# Altium integrated library ST RF and IF Frequency Synthesiser.IntLib: 6 symbols
Pins are listed as number, name and electrical type; pins without a type are passive.

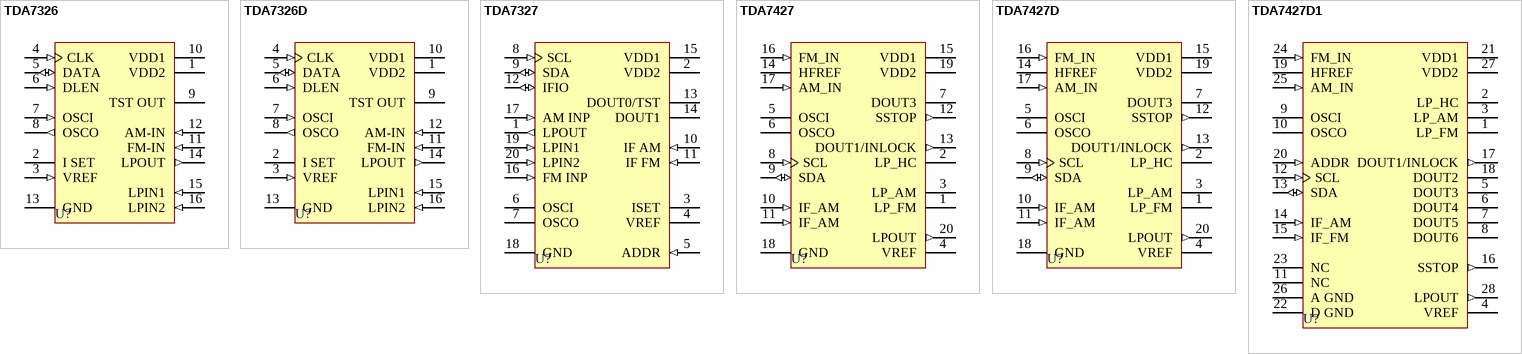
[diagram p0: symbols TDA7326 to TDA7427D1]

## TDA7326
designator U?
AM-FM Radio Frequency Synthesizer; Published: 24-Aug-2001; LatestRevisionDate: 6-Jun-2005; LatestRevisionNote: Stylized 3D Model Added.; DatasheetDocument: Jul-1994; PackageDocument: Apr-1996; PackageReference: DIP16; Publisher: Altium Limited; ComponentLink1Description: Manufacturer Link; ComponentLink1URL: http://www.st.com/; ComponentLink2Description: Datasheet; ComponentLink2URL: http://www.st.com/stonline/products/literature/ds/4019/tda7326.pdf
footprint DIP16 (DIP; 16 Leads; Row Spacing 7.62 mm; Pitch 2.54 mm)
3D model DIP16 (DIP; 16 Leads; Row Spacing 7.62 mm; Pitch 2.54 mm)
pins: 1 VDD2 (power), 2 I SET, 3 VREF (in), 4 CLK (in), 5 DATA (io), 6 DLEN (in), 7 OSCI (in), 8 OSCO (out), 9 TST OUT (oc), 10 VDD1 (power), 11 FM-IN (in), 12 AM-IN (in), 13 GND (power), 14 LPOUT (out), 15 LPIN1 (in), 16 LPIN2 (in)

## TDA7326D
designator U?
AM-FM Radio Frequency Synthesizer; Published: 24-Aug-2001; LatestRevisionDate: 6-Jun-2005; LatestRevisionNote: Stylized 3D Model Added.; DatasheetDocument: Jul-1994; PackageDocument: Apr-1998; PackageReference: SO16W; Publisher: Altium Limited; Code_JEDEC: MS-013-AA; Code_IPC: SO16W; ComponentLink1Description: Manufacturer Link; ComponentLink1URL: http://www.st.com/; ComponentLink2Description: Datasheet; ComponentLink2URL: http://www.st.com/stonline/products/literature/ds/4019/tda7326.pdf
footprint SO16W (Small Outline; 16 Leads; Body Width 7.5 mm; Pitch 1.27 mm)
3D model SO16W (Small Outline; 16 Leads; Body Width 7.5 mm; Pitch 1.27 mm)
pins: 1 VDD2 (power), 2 I SET, 3 VREF (in), 4 CLK (in), 5 DATA (io), 6 DLEN (in), 7 OSCI (in), 8 OSCO (out), 9 TST OUT (oc), 10 VDD1 (power), 11 FM-IN (in), 12 AM-IN (in), 13 GND (power), 14 LPOUT (out), 15 LPIN1 (in), 16 LPIN2 (in)

## TDA7327
designator U?
AM-FM Radio Frequency Synthesizer and IF Counter; Published: 24-Aug-2001; LatestRevisionDate: 6-Jun-2005; LatestRevisionNote: Stylized 3D Model Added.; DatasheetDocument: Oct-1993; PackageDocument: Jun-1998; PackageReference: DIP20; Publisher: Altium Limited; Code_JEDEC: MS-015-AE; ComponentLink1Description: Manufacturer Link; ComponentLink1URL: http://www.st.com/
footprint DIP20 (DIP; 20 Leads; Row Spacing 7.62 mm; Pitch 2.54 mm)
3D model DIP20 (DIP; 20 Leads; Row Spacing 7.62 mm; Pitch 2.54 mm)
pins: 1 LPOUT (out), 2 VDD2 (power), 3 ISET, 4 VREF, 5 ADDR (in), 6 OSCI, 7 OSCO, 8 SCL (in), 9 SDA (io), 10 IF AM (in), 11 IF FM (in), 12 IFIO (io), 13 DOUT0/TST (oc), 14 DOUT1 (oc), 15 VDD1 (power), 16 FM INP (in), 17 AM INP (in), 18 GND (power), 19 LPIN1 (in), 20 LPIN2 (in)

## TDA7427
designator U?
AM-FM Radio Frequency Synthesizer and IF Counter; Note: Function for pin 13 is user defined by software.; Published: 24-Aug-2001; LatestRevisionDate: 6-Jun-2005; LatestRevisionNote: Stylized 3D Model Added.; DatasheetDocument: Feb-1999; PackageDocument: Jun-1998; PackageReference: DIP20; Publisher: Altium Limited; Code_JEDEC: MS-015-AE; ComponentLink1Description: Manufacturer Link; ComponentLink1URL: http://www.st.com/
footprint DIP20 (DIP; 20 Leads; Row Spacing 7.62 mm; Pitch 2.54 mm)
3D model DIP20 (DIP; 20 Leads; Row Spacing 7.62 mm; Pitch 2.54 mm)
pins: 1 LP_FM, 2 LP_HC, 3 LP_AM, 4 VREF, 5 OSCI, 6 OSCO, 7 DOUT3 (oc), 8 SCL (in), 9 SDA (io), 10 IF_AM (in), 11 IF_AM (in), 12 SSTOP (out), 13 DOUT1/INLOCK (out), 14 HFREF, 15 VDD1 (power), 16 FM_IN (in), 17 AM_IN (in), 18 GND (power), 19 VDD2 (power), 20 LPOUT (out)

## TDA7427D
designator U?
AM-FM Radio Frequency Synthesizer and IF Counter; Note: Function for pin 13 is user defined by software.; Published: 24-Aug-2001; LatestRevisionDate: 6-Jun-2005; LatestRevisionNote: Stylized 3D Model Added.; DatasheetDocument: Feb-1999; PackageDocument: Jul-2001; PackageReference: SO20; Publisher: Altium Limited; Code_JEDEC: MS-013-AC; Code_IPC: SO20W; ComponentLink1Description: Manufacturer Link; ComponentLink1URL: http://www.st.com/
footprint SO20 (Small Outline, Plastic; 20 Leads; Body Width 7.5 mm; Pitch 1.27 mm)
3D model SO20 (Small Outline, Plastic; 20 Leads; Body Width 7.5 mm; Pitch 1.27 mm)
pins: 1 LP_FM, 2 LP_HC, 3 LP_AM, 4 VREF, 5 OSCI, 6 OSCO, 7 DOUT3 (oc), 8 SCL (in), 9 SDA (io), 10 IF_AM (in), 11 IF_AM (in), 12 SSTOP (out), 13 DOUT1/INLOCK (out), 14 HFREF, 15 VDD1 (power), 16 FM_IN (in), 17 AM_IN (in), 18 GND (power), 19 VDD2 (power), 20 LPOUT (out)

## TDA7427D1
designator U?
AM-FM Radio Frequency Synthesizer and IF Counter; Note: Function for pin 17 is user defined by software.; Published: 24-Aug-2001; LatestRevisionDate: 6-Jun-2005; LatestRevisionNote: Stylized 3D Model Added.; DatasheetDocument: Jul-1996; PackageDocument: Jul-2001; PackageReference: SO28; Publisher: Altium Limited; Code_IPC: SO28W; ComponentLink1Description: Manufacturer Link; ComponentLink1URL: http://www.st.com/
footprint SO28 (Small Outline, Plastic; 28 Leads; Body Width 7.5 mm; Pitch 1.27 mm)
3D model SO28 (Small Outline, Plastic; 28 Leads; Body Width 7.5 mm; Pitch 1.27 mm)
pins: 1 LP_FM, 2 LP_HC, 3 LP_AM, 4 VREF, 5 DOUT3 (oc), 6 DOUT4 (oc), 7 DOUT5 (oc), 8 DOUT6 (oc), 9 OSCI, 10 OSCO, 11 NC, 12 SCL (in), 13 SDA (io), 14 IF_AM (in), 15 IF_FM (in), 16 SSTOP (out), 17 DOUT1/INLOCK (out), 18 DOUT2 (oc), 19 HFREF, 20 ADDR (in), 21 VDD1 (power), 22 D GND (power), 23 NC, 24 FM_IN (in), 25 AM_IN (in), 26 A GND (power), 27 VDD2 (power), 28 LPOUT (out)